# Altium footprint library SV601187A.PcbLib: 30 footprints (part 2 of 2)
Each footprint in its own frame and in the unit in brackets; x right, y up, seen from the top. Pads: shape width x height; smd on the part's side, far side on the other; paste and mask are expansions set on the pad; w line width, h text height; cw(c..) or ccw(c..) is an arc to the next point about the centre after c.
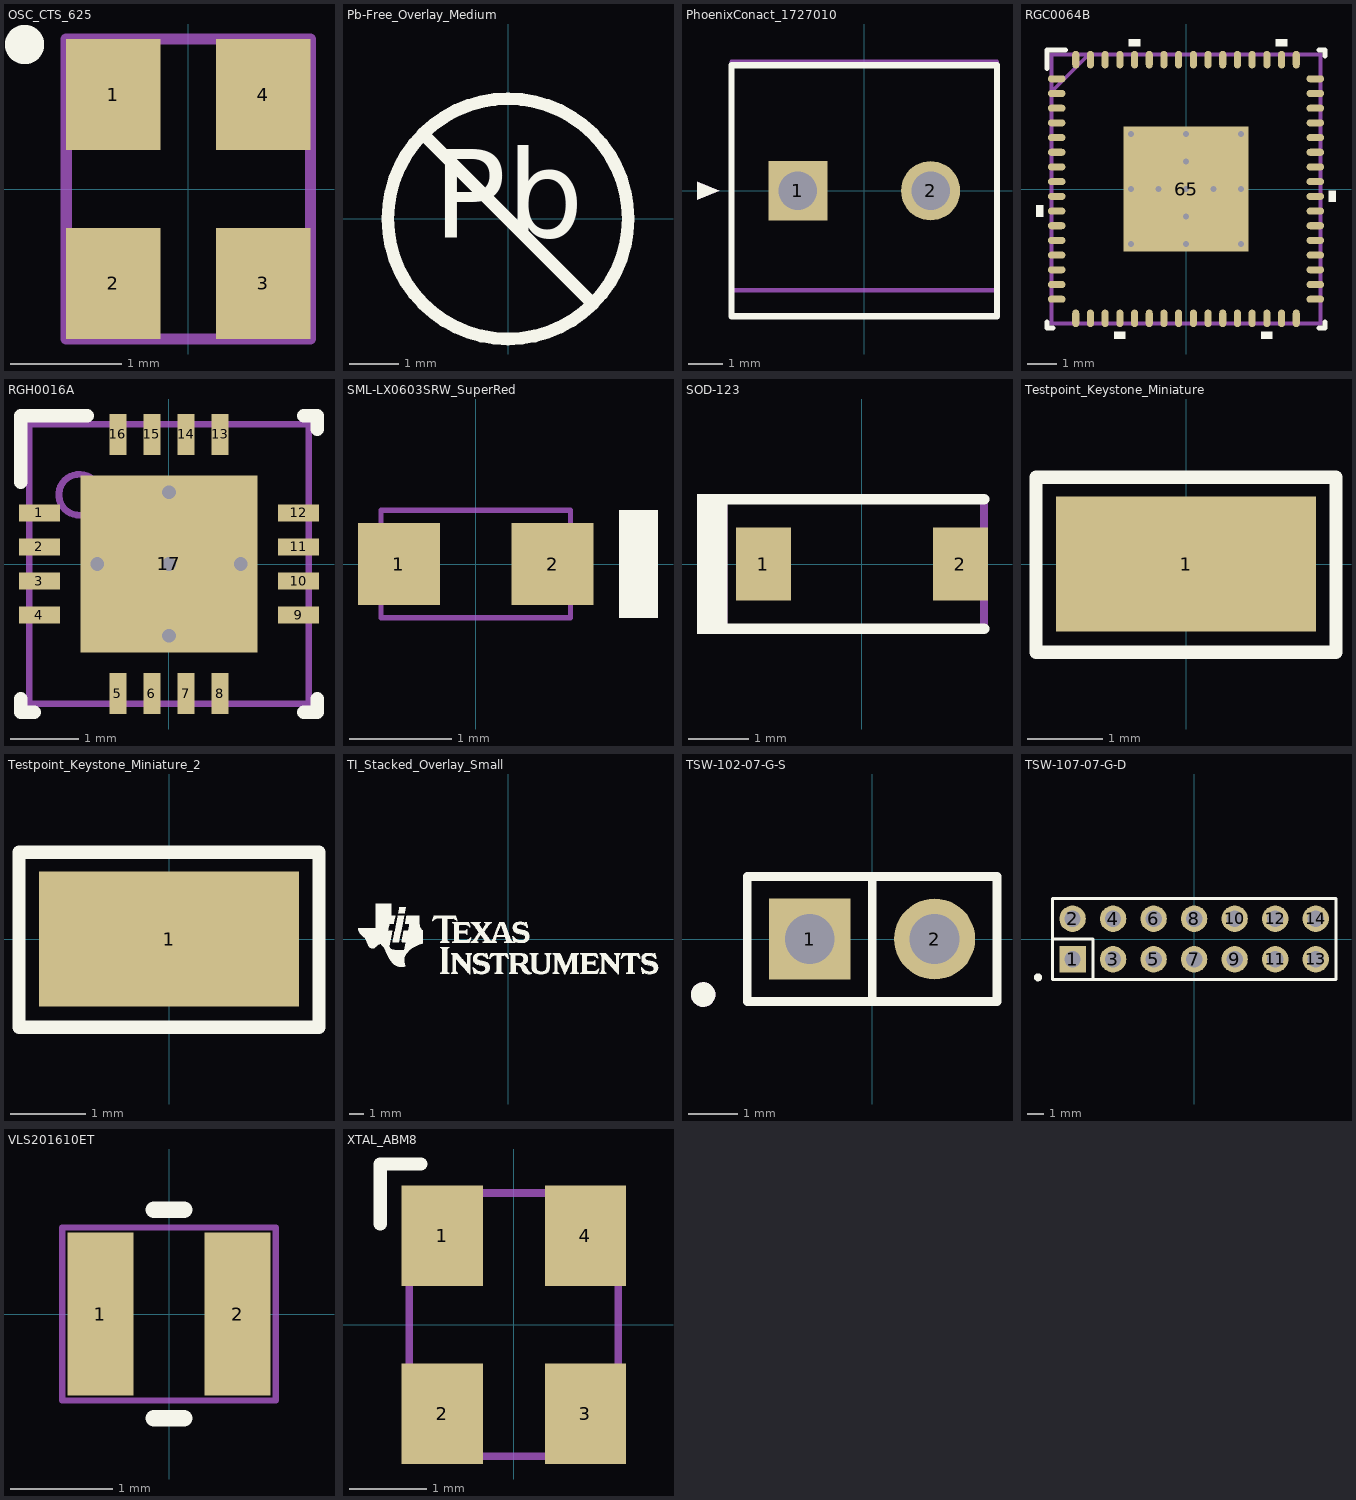
[diagram p1: the footprints below, top view; thin cyan lines are the x and y axes]

## OSC_CTS_625 [mm] "CTS"
height 1
pads (4):
  rect 0.85x1 smd: 1(-0.675,0.85) 2(-0.675,-0.85) 3(0.675,-0.85) 4(0.675,0.85)
Top Overlay:
  circle w0.254: c-1.475,1.3 r0.05
Mechanical 5:
  circle w0.1: c-0.6,0.8 r0.15
  lines w0.1: -1.1,-1.35 -1.1,1.35 1.1,1.35 1.1,-1.35 -1.1,-1.35
  text ".Designator" at 0.325,-1.05 h0.6
3D body: height 0.95, standoff 0, extent -1.099,-1.349 1.099,1.349
3D body: height 1, standoff 0.95, extent -1.099,-1.349 1.099,1.349
3D body: height 1.02, standoff 1, extent -0.749,0.651 -0.451,0.949

## Pb-Free_Overlay_Medium [mm]
Top Overlay:
  circle w0.254: c0,0 r2.413
  lines w0.254: -1.706,1.706 1.706,-1.706
  text "Pb" at -1.505,-0.961 h3.05

## PhoenixConact_1727010 [mm]
height 8.5
pads (2):
  rect 1.7x1.7 hole 1.1: 1(-1.905,0)
  round 1.7 hole 1.1: 2(1.905,0)
Top Overlay:
  region: -4.8,-0.254 -4.8,0.254 -4.165,0
  lines w0.178: -3.81,-3.6 -3.81,0 -3.81,3.6 0,3.6 3.81,3.6 3.81,0 3.81,-3.6 0,-3.6 -3.81,-3.6
Mechanical 5:
  region: -4.8,-0.254 -4.8,0.254 -4.165,0
  lines w0.127: -3.81,-2.861 -3.81,-2.049 -3.81,-1.566 -3.81,1.487 -3.81,1.962 -3.81,3.7 3.81,3.7 3.81,1.962 3.81,1.487 3.81,-1.566 3.81,-2.049 3.81,-2.861 ; -3.81,-2.861 -3.81,-3.3 -3.81,-3.6 3.81,-3.6 3.81,-3.3 3.81,-2.861 ; -3.81,-2.861 3.81,-2.861
  text ".Designator" at -1.524,-0.508 h1.02
3D body "1727010.stp": height 8.52, standoff -3.48, extent -3.81,-3.599 3.81,3.701

## RGC0064B [mm]
height 1
pads (65):
  oval 0.6x0.24 smd mask+0.07: 1(-4.4,3.75) 2(-4.4,3.25) 3(-4.4,2.75) 4(-4.4,2.25) 5(-4.4,1.75) 6(-4.4,1.25) 7(-4.4,0.75) 8(-4.4,0.25) 9(-4.4,-0.25) 10(-4.4,-0.75) 11(-4.4,-1.25) 12(-4.4,-1.75) 13(-4.4,-2.25) 14(-4.4,-2.75) 15(-4.4,-3.25) 16(-4.4,-3.75) 33(4.4,-3.75) 34(4.4,-3.25) 35(4.4,-2.75) 36(4.4,-2.25) 37(4.4,-1.75) 38(4.4,-1.25) 39(4.4,-0.75) 40(4.4,-0.25) 41(4.4,0.25) 42(4.4,0.75) 43(4.4,1.25) 44(4.4,1.75) 45(4.4,2.25) 46(4.4,2.75) 47(4.4,3.25) 48(4.4,3.75)
  oval 0.24x0.6 smd mask+0.07: 17(-3.751,-4.4) 18(-3.251,-4.4) 19(-2.751,-4.4) 20(-2.251,-4.4) 21(-1.75,-4.4) 22(-1.25,-4.4) 23(-0.75,-4.4) 24(-0.25,-4.4) 25(0.25,-4.4) 26(0.75,-4.4) 27(1.25,-4.4) 28(1.75,-4.4) 29(2.251,-4.4) 30(2.751,-4.4) 31(3.251,-4.4) 32(3.751,-4.4) 49(3.751,4.4) 50(3.251,4.4) 51(2.751,4.4) 52(2.251,4.4) 53(1.75,4.4) 54(1.25,4.4) 55(0.75,4.4) 56(0.25,4.4) 57(-0.25,4.4) 58(-0.75,4.4) 59(-1.25,4.4) 60(-1.75,4.4) 61(-2.251,4.4) 62(-2.751,4.4) 63(-3.251,4.4) 64(-3.751,4.4)
  rect 4.25x4.25 smd paste-2.112: 65(0,0)
via 1.875,-1.875 diameter 0.5 hole 0.2
via 0,-1.875 diameter 0.5 hole 0.2
via -1.875,-1.875 diameter 0.5 hole 0.2
via 0,-0.937 diameter 0.5 hole 0.2
via 1.875,0 diameter 0.5 hole 0.2
via 0.937,0 diameter 0.5 hole 0.2
via 0,0 diameter 0.5 hole 0.2
via -0.937,0 diameter 0.5 hole 0.2
via -1.875,0 diameter 0.5 hole 0.2
via 0,0.937 diameter 0.5 hole 0.2
via 1.875,1.875 diameter 0.5 hole 0.2
via 0,1.875 diameter 0.5 hole 0.2
via -1.875,1.875 diameter 0.5 hole 0.2
Top Overlay:
  region: -1.56,4.849 -1.941,4.849 -1.941,5.103 -1.56,5.103
  region: 3.441,4.849 3.06,4.849 3.06,5.103 3.441,5.103
  region: 4.849,-0.059 5.103,-0.059 5.103,-0.44 4.849,-0.44
  region: 2.941,-4.849 2.56,-4.849 2.56,-5.103 2.941,-5.103
  region: -2.06,-4.849 -2.441,-4.849 -2.441,-5.103 -2.06,-5.103
  region: -4.849,-0.56 -5.103,-0.56 -5.103,-0.941 -4.849,-0.941
  lines w0.178: -4.725,-4.525 -4.725,-4.725 -4.525,-4.725 ; -4.725,4.096 -4.725,4.725 -4.097,4.725 ; 4.525,-4.725 4.725,-4.725 4.725,-4.525 ; 4.525,4.725 4.725,4.725 4.725,4.525
Top Paste:
  rectangle: 0.1,0.1 1.888,1.888
  region: -0.1,1.888 -1.888,1.888 -1.888,0.1 -0.1,0.1
  region: -0.1,-0.1 -1.888,-0.1 -1.888,-1.888 -0.1,-1.888
  rectangle: 0.1,-1.888 1.888,-0.1
Mechanical 5:
  lines w0.127: -4.575,3.305 -3.305,4.575 ; -4.575,-4.575 -4.575,4.575 4.575,4.575 4.575,-4.575 -4.575,-4.575 ; -4.575,-3.9 -4.575,-3.6 -4.575,-3.9 ; -4.575,-3.4 -4.575,-3.1 -4.575,-3.4 ; -4.575,-2.9 -4.575,-2.6 -4.575,-2.9 ; -4.575,-2.4 -4.575,-2.1 -4.575,-2.4 ; -4.575,-1.9 -4.575,-1.6 -4.575,-1.9 ; -4.575,-1.4 -4.575,-1.1 -4.575,-1.4 ; -4.575,-0.9 -4.575,-0.6 -4.575,-0.9 ; -4.575,-0.4 -4.575,-0.1 -4.575,-0.4 ; -4.575,0.1 -4.575,0.4 -4.575,0.1 ; -4.575,0.6 -4.575,0.9 -4.575,0.6 ; -4.575,1.1 -4.575,1.4 -4.575,1.1 ; -4.575,1.6 -4.575,1.9 -4.575,1.6 ; -4.575,2.1 -4.575,2.4 -4.575,2.1 ; -4.575,2.6 -4.575,2.9 -4.575,2.6 ; -4.575,3.1 -4.575,3.4 -4.575,3.1 ; -4.575,3.6 -4.575,3.9 -4.575,3.6 ; -3.9,-4.575 -3.6,-4.575 -3.9,-4.575 ; -3.9,4.575 -3.6,4.575 -3.9,4.575 ; -3.4,-4.575 -3.1,-4.575 -3.4,-4.575 ; -3.4,4.575 -3.1,4.575 -3.4,4.575 ; -2.9,-4.575 -2.6,-4.575 -2.9,-4.575 ; -2.9,4.575 -2.6,4.575 -2.9,4.575 ; -2.4,-4.575 -2.1,-4.575 -2.4,-4.575 ; -2.4,4.575 -2.1,4.575 -2.4,4.575 ; -1.9,-4.575 -1.6,-4.575 -1.9,-4.575 ; -1.9,4.575 -1.6,4.575 -1.9,4.575 ; -1.4,-4.575 -1.1,-4.575 -1.4,-4.575 ; -1.4,4.575 -1.1,4.575 -1.4,4.575 ; -0.9,-4.575 -0.6,-4.575 -0.9,-4.575 ; -0.9,4.575 -0.6,4.575 -0.9,4.575 ; -0.4,-4.575 -0.1,-4.575 -0.4,-4.575 ; -0.4,4.575 -0.1,4.575 -0.4,4.575 ; 0.1,-4.575 0.4,-4.575 0.1,-4.575 ; 0.1,4.575 0.4,4.575 0.1,4.575 ; 0.6,-4.575 0.9,-4.575 0.6,-4.575 ; 0.6,4.575 0.9,4.575 0.6,4.575 ; 1.1,-4.575 1.4,-4.575 1.1,-4.575 ; 1.1,4.575 1.4,4.575 1.1,4.575 ; 1.6,-4.575 1.9,-4.575 1.6,-4.575 ; 1.6,4.575 1.9,4.575 1.6,4.575 ; 2.1,-4.575 2.4,-4.575 2.1,-4.575 ; 2.1,4.575 2.4,4.575 2.1,4.575 ; 2.6,-4.575 2.9,-4.575 2.6,-4.575 ; 2.6,4.575 2.9,4.575 2.6,4.575 ; 3.1,-4.575 3.4,-4.575 3.1,-4.575 ; 3.1,4.575 3.4,4.575 3.1,4.575 ; 3.6,-4.575 3.9,-4.575 3.6,-4.575 ; 3.6,4.575 3.9,4.575 3.6,4.575 ; 4.575,-3.9 4.575,-3.6 4.575,-3.9 ; 4.575,-3.4 4.575,-3.1 4.575,-3.4 ; 4.575,-2.9 4.575,-2.6 4.575,-2.9 ; 4.575,-2.4 4.575,-2.1 4.575,-2.4 ; 4.575,-1.9 4.575,-1.6 4.575,-1.9 ; 4.575,-1.4 4.575,-1.1 4.575,-1.4 ; 4.575,-0.9 4.575,-0.6 4.575,-0.9 ; 4.575,-0.4 4.575,-0.1 4.575,-0.4 ; 4.575,0.1 4.575,0.4 4.575,0.1 ; 4.575,0.6 4.575,0.9 4.575,0.6 ; 4.575,1.1 4.575,1.4 4.575,1.1 ; 4.575,1.6 4.575,1.9 4.575,1.6 ; 4.575,2.1 4.575,2.4 4.575,2.1 ; 4.575,2.6 4.575,2.9 4.575,2.6 ; 4.575,3.1 4.575,3.4 4.575,3.1 ; 4.575,3.6 4.575,3.9 4.575,3.6
  text ".Designator" at -2.032,-0.508 h1.02
3D body: height 1, standoff 0, extent -4.574,-4.574 4.574,4.574
3D body: height 1.01, standoff 1, extent -3.868,3.117 -3.092,3.893

## RGH0016A [mm] "QFN, 16-Leads, Body 4x4mm, Pitch 0.5mm, TI Recommended"
height 0.8
pads (17):
  rect 0.6x0.25 smd: 1(-1.9,0.75) 2(-1.9,0.25) 3(-1.9,-0.25) 4(-1.9,-0.75) 9(1.9,-0.75) 10(1.9,-0.25) 11(1.9,0.25) 12(1.9,0.75)
  rect 0.25x0.6 smd: 5(-0.75,-1.9) 6(-0.25,-1.9) 7(0.25,-1.9) 8(0.75,-1.9) 13(0.75,1.9) 14(0.25,1.9) 15(-0.25,1.9) 16(-0.75,1.9)
  rect 2.6x2.6 smd paste-1.3: 17(0,0)
via 0,0 diameter 0.5 hole 0.2
via 1.05,0 diameter 0.5 hole 0.2
via -1.05,0 diameter 0.5 hole 0.2
via 0,1.05 diameter 0.5 hole 0.2
via 0,-1.05 diameter 0.5 hole 0.2
Top Overlay:
  lines w0.2: -2.175,-1.975 -2.175,-2.175 -1.975,-2.175 ; -2.175,1.2 -2.175,2.175 -1.2,2.175 ; 1.975,-2.175 2.175,-2.175 2.175,-1.975 ; 1.975,2.175 2.175,2.175 2.175,1.975
Top Paste:
  rectangle: 0.1,0.1 1.248,1.248
  region: -0.1,1.248 -1.248,1.248 -1.248,0.1 -0.1,0.1
  region: -0.1,-0.1 -1.248,-0.1 -1.248,-1.248 -0.1,-1.248
  rectangle: 0.1,-1.248 1.248,-0.1
Mechanical 5:
  circle w0.1: c-1.316,1.016 r0.3
  lines w0.1: -2.05,-2.05 2.05,-2.05 2.05,2.05 -2.05,2.05 -2.05,-2.05
  text ".Designator" at -1.4,-0.5 h0.76
3D body: height 0.81, standoff 0.5, extent -1.615,0.717 -1.017,1.315
3D body: height 0.8, standoff 0, extent -2.05,-2.05 2.05,2.05

## SML-LX0603SRW_SuperRed [mm] "Lumex Opto/Components Inc"
height 1.1
pads (2):
  rect 0.8x0.8 smd: 1(-0.75,0) 2(0.75,0)
Top Overlay:
  rectangle: 1.397,-0.525 1.778,0.525
Mechanical 5:
  rectangle: 1.397,-0.525 1.775,0.525
  lines w0.05: -0.925,-0.525 -0.925,0.525 0.925,0.525 0.925,-0.525 -0.925,-0.525
  text ".Designator" at -0.66,-0.178 h0.36
3D body: height 0.55, standoff 0.55, extent 0.714,-0.404 0.864,-0.254
3D body: height 0.55, standoff 0.55, extent -0.925,-0.525 -0.625,0.525
3D body: height 0.55, standoff 0.55, extent 0.625,-0.525 0.925,0.525
3D body: height 0.55, standoff 0, extent -0.925,-0.525 0.925,0.525
3D body: height 1.1, standoff 0.55, extent -0.625,-0.525 0.625,0.525

## SOD-123 [mm] "On Semi recommended land pattern"
height 1.35
pads (2):
  rect 0.915x1.22 smd: 1(-1.637,0) 2(1.637,0)
Top Overlay:
  rectangle: -2.743,-1.168 -2.235,1.168
  lines w0.178: -2.413,-1.079 2.032,-1.079 ; -2.413,1.079 2.032,1.079
Mechanical 5:
  rectangle: -2.743,-1.168 -2.235,1.168
  lines w0.127: -2.413,-1.079 2.032,-1.079 2.032,1.079 -2.413,1.079
  text ".Designator" at -1.956,-0.33 h0.76
3D body "SOD-123.stp": height 1.35, standoff 0, extent -1.932,-0.9 1.932,0.9

## Testpoint_Keystone_Miniature [mil] "Miniature SMT test point"
height 90.55
pads (1):
  rect 135x70 smd: 1(0,0)
Top Overlay:
  lines w7: -78,-46 78,-46 78,45 5,45 -65,45 -78,45 -78,-38 -78,-46
Mechanical 5:
  lines w5: -78,-46 -78,-38 -78,45 -65,45 5,45 78,45 78,-46 -78,-46
  text ".Designator" at -60,-15 h40
3D body "keystone_5015.stp": height 60.6, standoff 0.6, extent -52.5,-20 52.5,20

## Testpoint_Keystone_Miniature_2 [mil]
pads (1):
  rect 135x70 smd: 1(0,0)
Top Overlay:
  lines w7: -78,-46 78,-46 78,45 5,45 -65,45 -78,45 -78,-38 -78,-46
Mechanical 5:
  lines w5: -78,-46 -78,-38 -78,45 -65,45 5,45 78,45 78,-46 -78,-46
  text ".Designator" at -60,-15 h40
3D body "keystone_5015.stp": height 60.6, standoff 0.6, extent -52.5,-20 52.5,20

## TI_Stacked_Overlay_Small [mm]
Top Overlay:
  drawing of 18 lines, arcs and shapes, not listed

## TSW-102-07-G-S [mm] "Samtec 100mil, 1x2, 230 mil above insulator"
height 8.382
pads (2):
  rect 1.65x1.65 hole 1.016 mask+0: 1(-1.27,0)
  round 1.65 hole 1.016 mask+0: 2(1.27,0)
Top Overlay:
  circle w0.25: c-3.44,-1.13 r0.125
  lines w0.178: 0,-1.27 0,1.27 ; -2.54,-1.27 -2.54,1.27 2.54,1.27 2.54,-1.27 -2.54,-1.27
Mechanical 5:
  circle w0.25: c-3.44,-1.13 r0.125
  lines w0.127: -2.54,-1.27 2.54,-1.27 2.54,1.27 -2.54,1.27 -2.54,-1.27
  text ".Designator" at -1.524,-0.508 h1.02
3D body "SamtecTSW-07_2x1.stp": height 8.38, standoff -2.54, extent -2.54,-1.27 2.54,1.27

## TSW-107-07-G-D [mm] "Samtec 100mil, 2x7, 230 mil above insulator"
height 8.382
pads (14):
  rect 1.65x1.65 hole 1.016 mask+0: 1(-7.62,-1.27)
  round 1.65 hole 1.016 mask+0: 2(-7.62,1.27) 3(-5.08,-1.27) 4(-5.08,1.27) 5(-2.54,-1.27) 6(-2.54,1.27) 7(0,-1.27) 8(0,1.27) 9(2.54,-1.27) 10(2.54,1.27) 11(5.08,-1.27) 12(5.08,1.27) 13(7.62,-1.27) 14(7.62,1.27)
Top Overlay:
  circle w0.25: c-9.79,-2.4 r0.125
  lines w0.178: -8.89,0 -6.35,0 -6.35,-2.54 ; -8.89,-2.54 8.89,-2.54 8.89,2.54 -8.89,2.54 -8.89,-2.54
Mechanical 5:
  rectangle: -8.128,-1.778 -7.112,-0.762
  lines w0.127: -8.89,-2.54 -8.89,2.54 8.89,2.54 8.89,-2.54 -8.89,-2.54
  text ".Designator" at -1.524,-0.508 h1.02
3D body "SamtecTSW-07_7x2.stp": height 8.38, standoff -2.54, extent -8.89,-2.54 8.89,2.54

## VLS201610ET [mm] "TDK"
height 0.95
pads (2):
  rect 0.65x1.6 smd: 1(-0.675,0) 2(0.675,0)
Top Overlay:
  lines w0.165: -0.15,-1.025 0.15,-1.025 ; -0.15,1.025 0.15,1.025
Mechanical 5:
  lines w0.06: -1.05,-0.85 -1.05,0.85 1.05,0.85 1.05,-0.85 -1.05,-0.85
  text ".Designator" at -0.9,-0.3 h0.55
3D body: height 0.95, standoff 0, extent -1.049,-0.849 1.049,0.849

## XTAL_ABM8 [mm] "Abracon recommended land pattern"
height 0.8
pads (4):
  rect 1.05x1.3 smd: 1(-0.925,1.15) 2(-0.925,-1.15) 3(0.925,-1.15) 4(0.925,1.15)
Top Overlay:
  lines w0.17: -1.725,1.3 -1.725,2.075 -1.2,2.075
Mechanical 5:
  circle w0.1: c-0.827,1.2 r0.2
  lines w0.1: -1.35,-1.7 -1.35,1.7 1.35,1.7 1.35,-1.7 -1.35,-1.7
  text ".Designator" at 0.3,-1.3 h0.7
3D body: height 0.8, standoff 0.79, extent -1.349,-1.699 1.349,1.699
3D body: height 0.79, standoff 0, extent -1.349,-1.699 1.349,1.699
3D body: height 0.8, standoff 0.5, extent -0.953,1.074 -0.701,1.326